# EAGLE library part MCP3424-E/SL (library eagleParts)
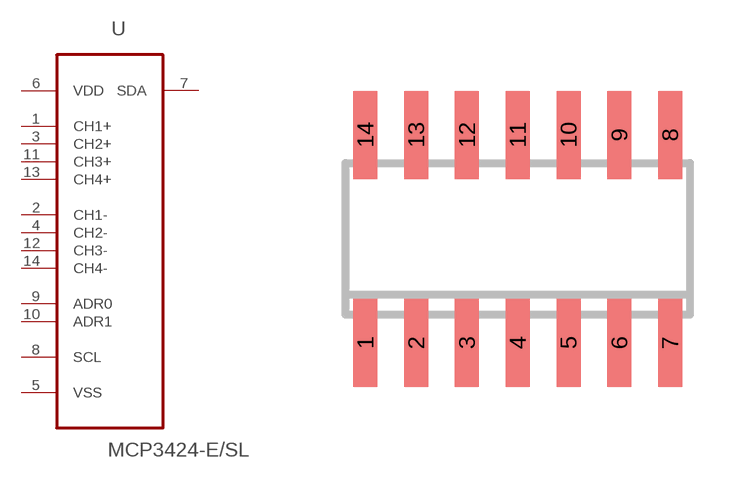
[diagram p15: symbol with the pads of SOIC-14; footprint SOIC-14]

Designator prefix -

## MCP3424-E/SL  [SOIC-14]
1  CH1+  in
2  CH1-  in
3  CH2+  in
4  CH2-  in
5  VSS  pwr
6  VDD  pwr
7  SDA
8  SCL  in
9  ADR0  in
10  ADR1  in
11  CH3+  in
12  CH3-  in
13  CH4+  in
14  CH4-  in

## Footprint SOIC-14 (pad centres in mm)
smd 0.6 x 2.2: 1 -3.81,-2.6; 2 -2.54,-2.6; 3 -1.27,-2.6; 4 0,-2.6; 5 1.27,-2.6; 6 2.54,-2.6; 7 3.81,-2.6; 8 3.81,2.6; 9 2.54,2.6; 10 1.27,2.6; 11 0,2.6; 12 -1.27,2.6; 13 -2.54,2.6; 14 -3.81,2.6